# EAGLE library part WS2811-SOP8 (library WS2811-SOP8)
IC: driver; LED controller; SOP8; 67VDC; PWM controller Source: Datasheet <https://pdf1.alldatasheet.com/datasheet-pdf/view/1132633/WORLDSEMI/WS2811.html>
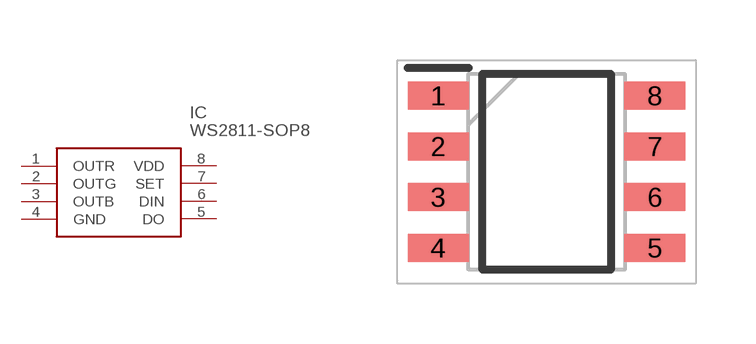
[diagram p0: symbol with the pads of SOIC127P600X175-8N; footprint SOIC127P600X175-8N]

Designator prefix IC

## WS2811-SOP8 (Description: IC: driver; LED controller; SOP8; 67VDC; PWM controller; Height: 1.75mm; Manufacturer_Name: Worldsemi; Manufacturer_Part_Number: WS2811-SOP8)  [SOIC127P600X175-8N]
1  OUTR
2  OUTG
3  OUTB
4  GND
5  DO
6  DIN
7  SET
8  VDD

## Footprint SOIC127P600X175-8N (pad centres in mm)
SOP-8_2021
smd 1.525 x 0.7: 1 -2.712,1.905; 2 -2.712,0.635; 3 -2.712,-0.635; 4 -2.712,-1.905; 5 2.712,-1.905; 6 2.712,-0.635; 7 2.712,0.635; 8 2.712,1.905